# EAGLE library part R_PI_A+ (library MISC)
Raspberry Pi Model A+ board socket.
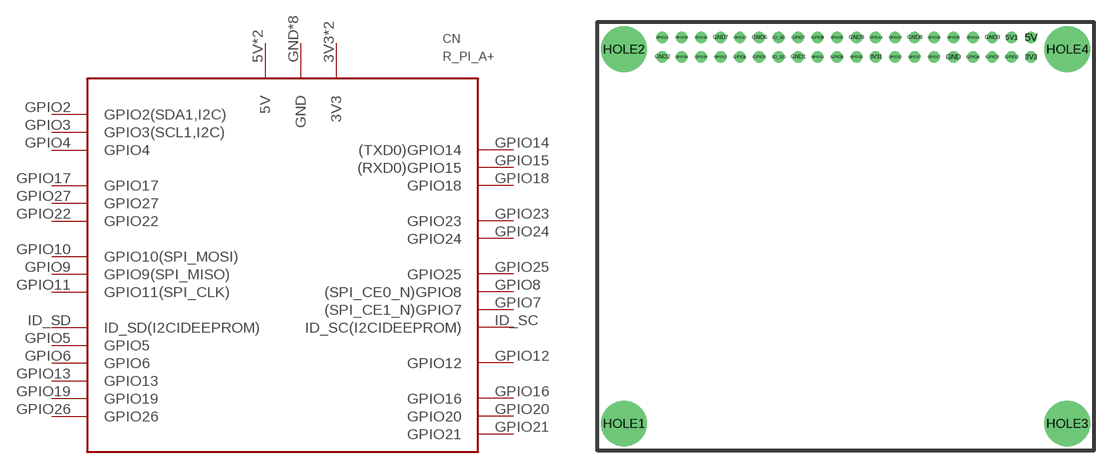
[diagram p4: symbol with the pads of R_PI_A+; footprint R_PI_A+]

Designator prefix CN

## R_PI_A+  [R_PI_A+]
3V3  3V3
3V31  3V3
5V  5V
5V1  5V
GND  GND
GND1  GND
GND2  GND
GND3  GND
GND6  GND
GND7  GND
GND8  GND
GND9  GND
GPIO2  GPIO2(SDA1,I2C)
GPIO3  GPIO3(SCL1,I2C)
GPIO4  GPIO4
GPIO5  GPIO5
GPIO6  GPIO6
GPIO7  (SPI_CE1_N)GPIO7
GPIO8  (SPI_CE0_N)GPIO8
GPIO9  GPIO9(SPI_MISO)
GPIO10  GPIO10(SPI_MOSI)
GPIO11  GPIO11(SPI_CLK)
GPIO12  GPIO12
GPIO13  GPIO13
GPIO14  (TXD0)GPIO14
GPIO15  (RXD0)GPIO15
GPIO16  GPIO16
GPIO17  GPIO17
GPIO18  GPIO18
GPIO19  GPIO19
GPIO20  GPIO20
GPIO21  GPIO21
GPIO22  GPIO22
GPIO23  GPIO23
GPIO24  GPIO24
GPIO25  GPIO25
GPIO26  GPIO26
GPIO27  GPIO27
ID_SC  ID_SC(I2CIDEEPROM)
ID_SD  ID_SD(I2CIDEEPROM)

## Footprint R_PI_A+ (pad centres in mm)
drill 0.8 pad 1.5: 3V3 24.27,23.5; 3V31 3.95,23.5; 5V 24.27,26.04; 5V1 21.73,26.04; GND 14.11,23.5; GND1 -6.21,23.5; GND2 -23.99,23.5; GND3 19.19,26.04; GND6 -11.29,26.04; GND7 -16.37,26.04; GND8 9.03,26.04; GND9 1.41,26.04; GPIO2 21.73,23.5; GPIO3 19.19,23.5; GPIO4 16.65,23.5; GPIO5 -11.29,23.5; GPIO6 -13.83,23.5; GPIO7 -6.21,26.04; GPIO8 -3.67,26.04; GPIO9 -1.13,23.5; GPIO10 1.41,23.5; GPIO11 -3.67,23.5; GPIO12 -13.83,26.04; GPIO13 -16.37,23.5; GPIO14 16.65,26.04; GPIO15 14.11,26.04; GPIO16 -18.91,26.04; GPIO17 11.57,23.5; GPIO18 11.57,26.04; GPIO19 -18.91,23.5; GPIO20 -21.45,26.04; GPIO21 -23.99,26.04; GPIO22 6.49,23.5; GPIO23 6.49,26.04; GPIO24 3.95,26.04; GPIO25 -1.13,26.04; GPIO26 -21.45,23.5; GPIO27 9.03,23.5; ID_SC -8.75,26.04; ID_SD -8.75,23.5
drill 3 pad 6: HOLE1 -29,-24.5; HOLE2 -29,24.5; HOLE3 29,-24.5; HOLE4 29,24.5